# Altium footprint library SN74AXC1T45-Q1.PcbLib: 1 footprints
Each footprint in its own frame and in the unit in brackets; x right, y up, seen from the top. Pads: shape width x height; smd on the part's side, far side on the other; paste and mask are expansions set on the pad; w line width, h text height; cw(c..) or ccw(c..) is an arc to the next point about the centre after c.
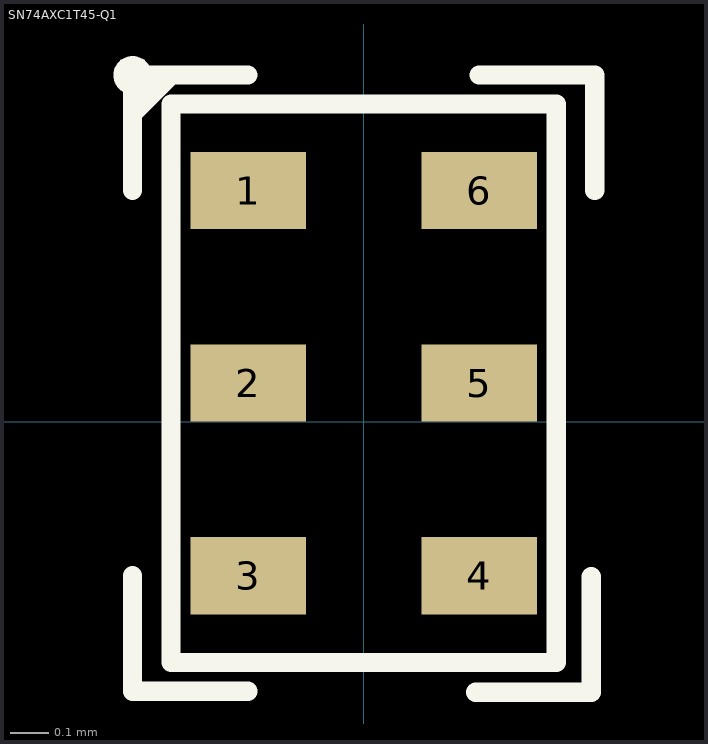
[diagram p0: the footprint, top view; thin cyan lines are the x and y axes]

## SN74AXC1T45-Q1 [mm]
pads (7):
  rect 0.3x0.2 smd mask+0.01: 1(-0.3,0.6) 2(-0.3,0.1) 3(-0.3,-0.4) 4(0.3,-0.4) 5(0.3,0.1) 6(0.3,0.6)
  round 0.1 on Top Overlay: ""(-0.6,0.9)
Top Overlay:
  lines w0.05: -0.6,-0.4 -0.6,-0.7 ; -0.6,0.6 -0.6,0.9 -0.5,0.9 ; -0.6,0.8 -0.5,0.9 ; -0.3,-0.7 -0.6,-0.7 ; -0.3,0.9 -0.5,0.9 ; 0.291,-0.702 0.491,-0.702 0.591,-0.702 0.591,-0.402 ; 0.3,0.9 0.6,0.9 ; 0.6,0.6 0.6,0.9 ; -0.6,-0.7 -0.6,-0.7 ; 0.6,0.9 0.6,0.9 ; -0.5,-0.625 0.5,-0.625 0.5,0.825 -0.5,0.825 -0.5,-0.625